# Altium footprint library SAMTEC-SSQ-102-02-X-D-RA.PCBLIB: 1 footprints
Each footprint in its own frame and in the unit in brackets; x right, y up, seen from the top. Pads: shape width x height; smd on the part's side, far side on the other; paste and mask are expansions set on the pad; w line width, h text height; cw(c..) or ccw(c..) is an arc to the next point about the centre after c.
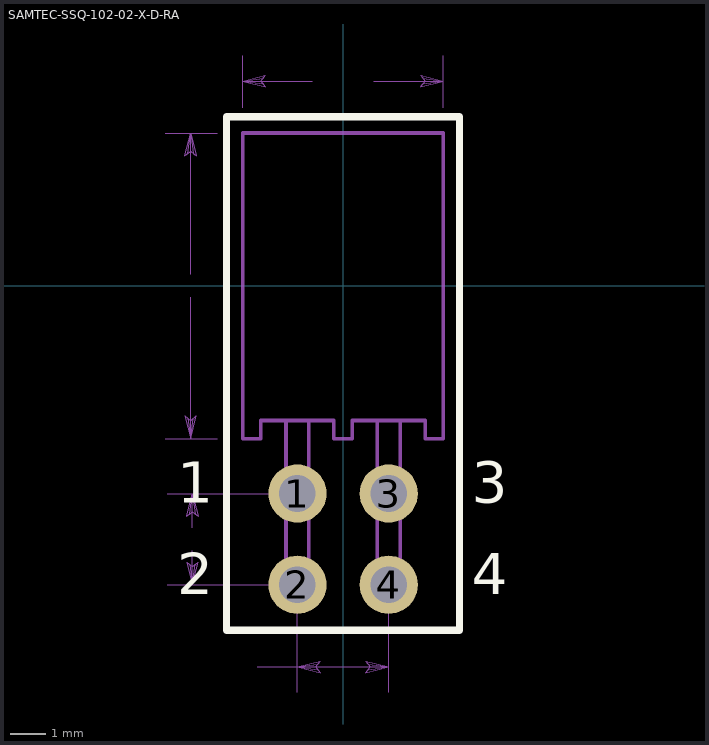
[diagram p0: the footprint, top view; thin cyan lines are the x and y axes]

## SAMTEC-SSQ-102-02-X-D-RA [mm]
pads (4):
  round 1.62 / inner round 1.524 / far side round 1.62 hole 1.02: 1(-1.27,-5.778) 2(-1.27,-8.318) 3(1.27,-5.778) 4(1.27,-8.318)
Top Overlay:
  lines w0.2: -3.244,-9.58 3.244,-9.58 3.244,4.705 -3.244,4.705 -3.244,-9.58
  text "3" at 3.585,-6.414 h1.97
  text "4" at 3.585,-8.954 h1.97
  text "1" at -4.614,-6.414 h1.97
  text "2" at -4.614,-8.954 h1.97
Top Solder:
  circle w0: c1.27,-8.318 r0.861
  circle w0: c1.27,-5.778 r0.861
  circle w0: c-1.27,-8.318 r0.861
  circle w0: c-1.27,-5.778 r0.861
Bottom Solder:
  circle w0: c1.27,-8.318 r0.861
  circle w0: c1.27,-5.778 r0.861
  circle w0: c-1.27,-8.318 r0.861
  circle w0: c-1.27,-5.778 r0.861
Assembly Top:
  lines w0.1: -1.588,-3.746 -1.588,-8.636 -0.952,-8.636 -0.952,-3.746 ; 0.952,-3.746 0.952,-8.636 1.588,-8.636 1.588,-3.746 ; -2.794,-4.254 -2.286,-4.254 -2.286,-3.746 -0.254,-3.746 -0.254,-4.254 0,-4.254 0.254,-4.254 0.254,-3.746 2.286,-3.746 2.286,-4.254 2.794,-4.254 2.794,4.254 0,4.254 -2.794,4.254 -2.794,-4.254
  text "3" at 3.585,-6.414 h1.97
  text "4" at 3.585,-8.954 h1.97
  text "1" at -4.614,-6.414 h1.97
  text "2" at -4.614,-8.954 h1.97
pDim:
  lines w0: -4.943,-4.254 -3.495,-4.254 ; -4.943,4.254 -3.495,4.254 ; -4.892,-8.318 -1.971,-8.318 ; -4.892,-5.778 -1.971,-5.778 ; -4.242,-0.318 -4.242,-4.254 ; -4.242,0.318 -4.242,4.254 ; -4.191,-7.366 -4.191,-8.318 ; -4.191,-6.731 -4.191,-5.778 ; -2.794,4.956 -2.794,6.403 ; -2.388,-10.604 -1.27,-10.604 ; -1.27,-11.306 -1.27,-9.02 ; -0.851,5.702 -2.794,5.702 ; 0.851,5.702 2.794,5.702 ; 1.27,-11.306 1.27,-9.02 ; 2.794,4.956 2.794,6.403 ; -4.401,-3.62 -4.321,-3.683 -4.242,-4.254 ; -4.401,-3.62 -4.242,-3.746 ; -4.401,-3.62 -4.242,-4.254 ; -4.35,-7.684 -4.27,-7.747 -4.191,-8.318 ; -4.35,-7.684 -4.191,-7.81 ; -4.35,-7.684 -4.191,-8.318 ; -4.242,-4.254 -4.242,-3.746 ; -4.242,-4.254 -4.162,-3.683 -4.242,-3.746 ; -4.242,-4.254 -4.083,-3.62 -4.242,-3.746 ; -4.242,3.746 -4.242,4.254 ; -4.242,3.746 -4.321,3.683 -4.242,4.254 ; -4.242,3.746 -4.083,3.62 ; -4.242,3.746 -4.401,3.62 -4.242,4.254 ; -4.242,4.254 -4.162,3.683 -4.083,3.62 ; -4.242,4.254 -4.083,3.62 ; -4.191,-8.318 -4.191,-7.81 ; -4.191,-8.318 -4.112,-7.747 -4.191,-7.81 ; -4.191,-8.318 -4.032,-7.684 -4.191,-7.81 ; -4.191,-6.286 -4.191,-5.778 ; -4.191,-6.286 -4.27,-6.35 -4.191,-5.778 ; -4.191,-6.286 -4.032,-6.414 ; -4.191,-6.286 -4.35,-6.414 -4.191,-5.778 ; -4.191,-5.778 -4.112,-6.35 -4.032,-6.414 ; -4.191,-5.778 -4.032,-6.414 ; -2.794,5.702 -2.222,5.782 -2.159,5.861 ; -2.794,5.702 -2.286,5.702 ; -2.794,5.702 -2.222,5.623 -2.286,5.702 ; -2.794,5.702 -2.159,5.544 -2.286,5.702 ; -2.794,5.702 -2.159,5.861 ; -2.286,5.702 -2.159,5.861 ; -1.27,-10.604 1.27,-10.604 ; -1.27,-10.604 -0.698,-10.525 -0.635,-10.446 ; -1.27,-10.604 -0.762,-10.604 ; -1.27,-10.604 -0.698,-10.684 -0.762,-10.604 ; -1.27,-10.604 -0.635,-10.763 -0.762,-10.604 ; -1.27,-10.604 -0.635,-10.446 ; -0.762,-10.604 -0.635,-10.446 ; 0.635,-10.763 0.698,-10.684 1.27,-10.604 ; 0.635,-10.763 0.762,-10.604 ; 0.635,-10.763 1.27,-10.604 ; 0.762,-10.604 1.27,-10.604 ; 0.762,-10.604 0.698,-10.525 1.27,-10.604 ; 0.762,-10.604 0.635,-10.446 1.27,-10.604 ; 2.159,5.544 2.222,5.623 2.794,5.702 ; 2.159,5.544 2.286,5.702 ; 2.159,5.544 2.794,5.702 ; 2.286,5.702 2.794,5.702 ; 2.286,5.702 2.222,5.782 2.794,5.702 ; 2.286,5.702 2.159,5.861 2.794,5.702
  text "5.588" at -0.66,5.575 h0.39
  text "8.509" at -4.902,-0.127 h0.39
  text "2.540" at -4.851,-7.176 h0.39
  text "2.540" at -3.899,-10.732 h0.39
pCourtYard:
  lines w0.1: -3.244,-9.58 3.244,-9.58 3.244,4.705 -3.244,4.705 -3.244,-9.58